# EAGLE library part CC2538 (library BQ25504)
A Powerful System-On-Chip for 2.4-GHz IEEE 802.15.4, 6LoWPAN and ZigBee Applications
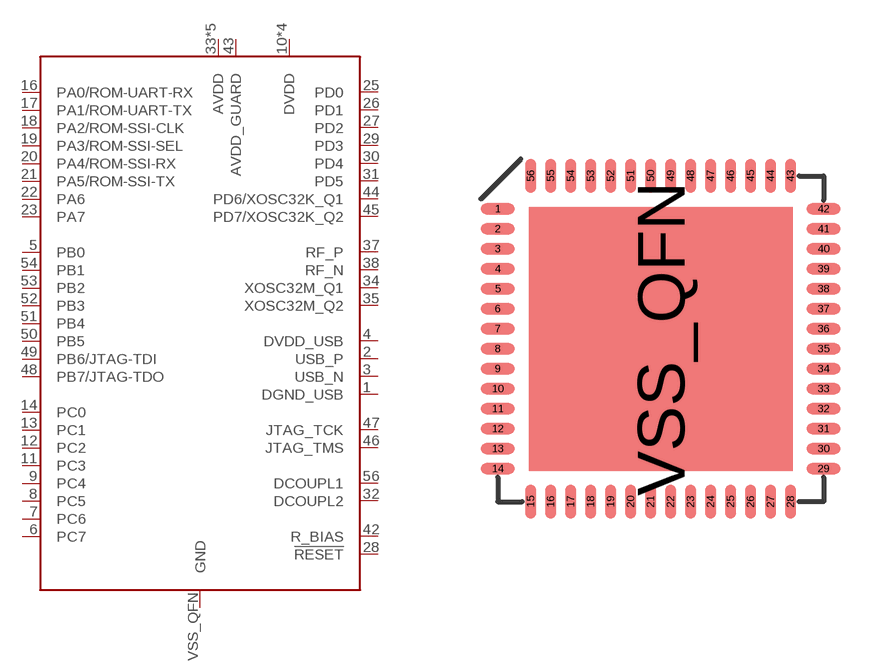
[diagram p5: symbol with the pads of S-PVQFN-N56; footprint S-PVQFN-N56]

Designator prefix U

## CC2538 (DIGIKEY: 296-35797-1-ND; MOUSER: 595-CC2538SF53RTQT; NEWARK: 87W7713)  [S-PVQFN-N56]
1  DGND_USB
2  USB_P
3  USB_N
4  DVDD_USB
5  PB0
6  PC7
7  PC6
8  PC5
9  PC4
10  DVDD
11  PC3
12  PC2
13  PC1
14  PC0
15  DVDD
16  PA0/ROM-UART-RX
17  PA1/ROM-UART-TX
18  PA2/ROM-SSI-CLK
19  PA3/ROM-SSI-SEL
20  PA4/ROM-SSI-RX
21  PA5/ROM-SSI-TX
22  PA6
23  PA7
24  DVDD
25  PD0
26  PD1
27  PD2
28  !RESET
29  PD3
30  PD4
31  PD5
32  DCOUPL2
33  AVDD
34  XOSC32M_Q1
35  XOSC32M_Q2
36  AVDD
37  RF_P
38  RF_N
39  AVDD
40  AVDD
41  AVDD
42  R_BIAS
43  AVDD_GUARD
44  PD6/XOSC32K_Q1
45  PD7/XOSC32K_Q2
46  JTAG_TMS
47  JTAG_TCK
48  PB7/JTAG-TDO
49  PB6/JTAG-TDI
50  PB5
51  PB4
52  PB3
53  PB2
54  PB1
55  DVDD
56  DCOUPL1
VSS_QFN  GND

## Footprint S-PVQFN-N56 (pad centres in mm)
S-PVQFN-N56
smd 0.85 x 0.28: 1 -4.075,3.25; 2 -4.075,2.75; 3 -4.075,2.25; 4 -4.075,1.75; 5 -4.075,1.25; 6 -4.075,0.75; 7 -4.075,0.25; 8 -4.075,-0.25; 9 -4.075,-0.75; 10 -4.075,-1.25; 11 -4.075,-1.75; 12 -4.075,-2.25; 13 -4.075,-2.75; 14 -4.075,-3.25; 29 4.075,-3.25; 30 4.075,-2.75; 31 4.075,-2.25; 32 4.075,-1.75; 33 4.075,-1.25; 34 4.075,-0.75; 35 4.075,-0.25; 36 4.075,0.25; 37 4.075,0.75; 38 4.075,1.25; 39 4.075,1.75; 40 4.075,2.25; 41 4.075,2.75; 42 4.075,3.25
smd 0.28 x 0.85: 15 -3.25,-4.075; 16 -2.75,-4.075; 17 -2.25,-4.075; 18 -1.75,-4.075; 19 -1.25,-4.075; 20 -0.75,-4.075; 21 -0.25,-4.075; 22 0.25,-4.075; 23 0.75,-4.075; 24 1.25,-4.075; 25 1.75,-4.075; 26 2.25,-4.075; 27 2.75,-4.075; 28 3.25,-4.075; 43 3.25,4.075; 44 2.75,4.075; 45 2.25,4.075; 46 1.75,4.075; 47 1.25,4.075; 48 0.75,4.075; 49 0.25,4.075; 50 -0.25,4.075; 51 -0.75,4.075; 52 -1.25,4.075; 53 -1.75,4.075; 54 -2.25,4.075; 55 -2.75,4.075; 56 -3.25,4.075
smd 6.6 x 6.6: VSS_QFN 0,0